# Altium footprint library JLC_25.PcbLib: 87 footprints (part 1 of 6)
Each footprint in its own frame and in the unit in brackets; x right, y up, seen from the top. Pads: shape width x height; smd on the part's side, far side on the other; paste and mask are expansions set on the pad; w line width, h text height; cw(c..) or ccw(c..) is an arc to the next point about the centre after c.
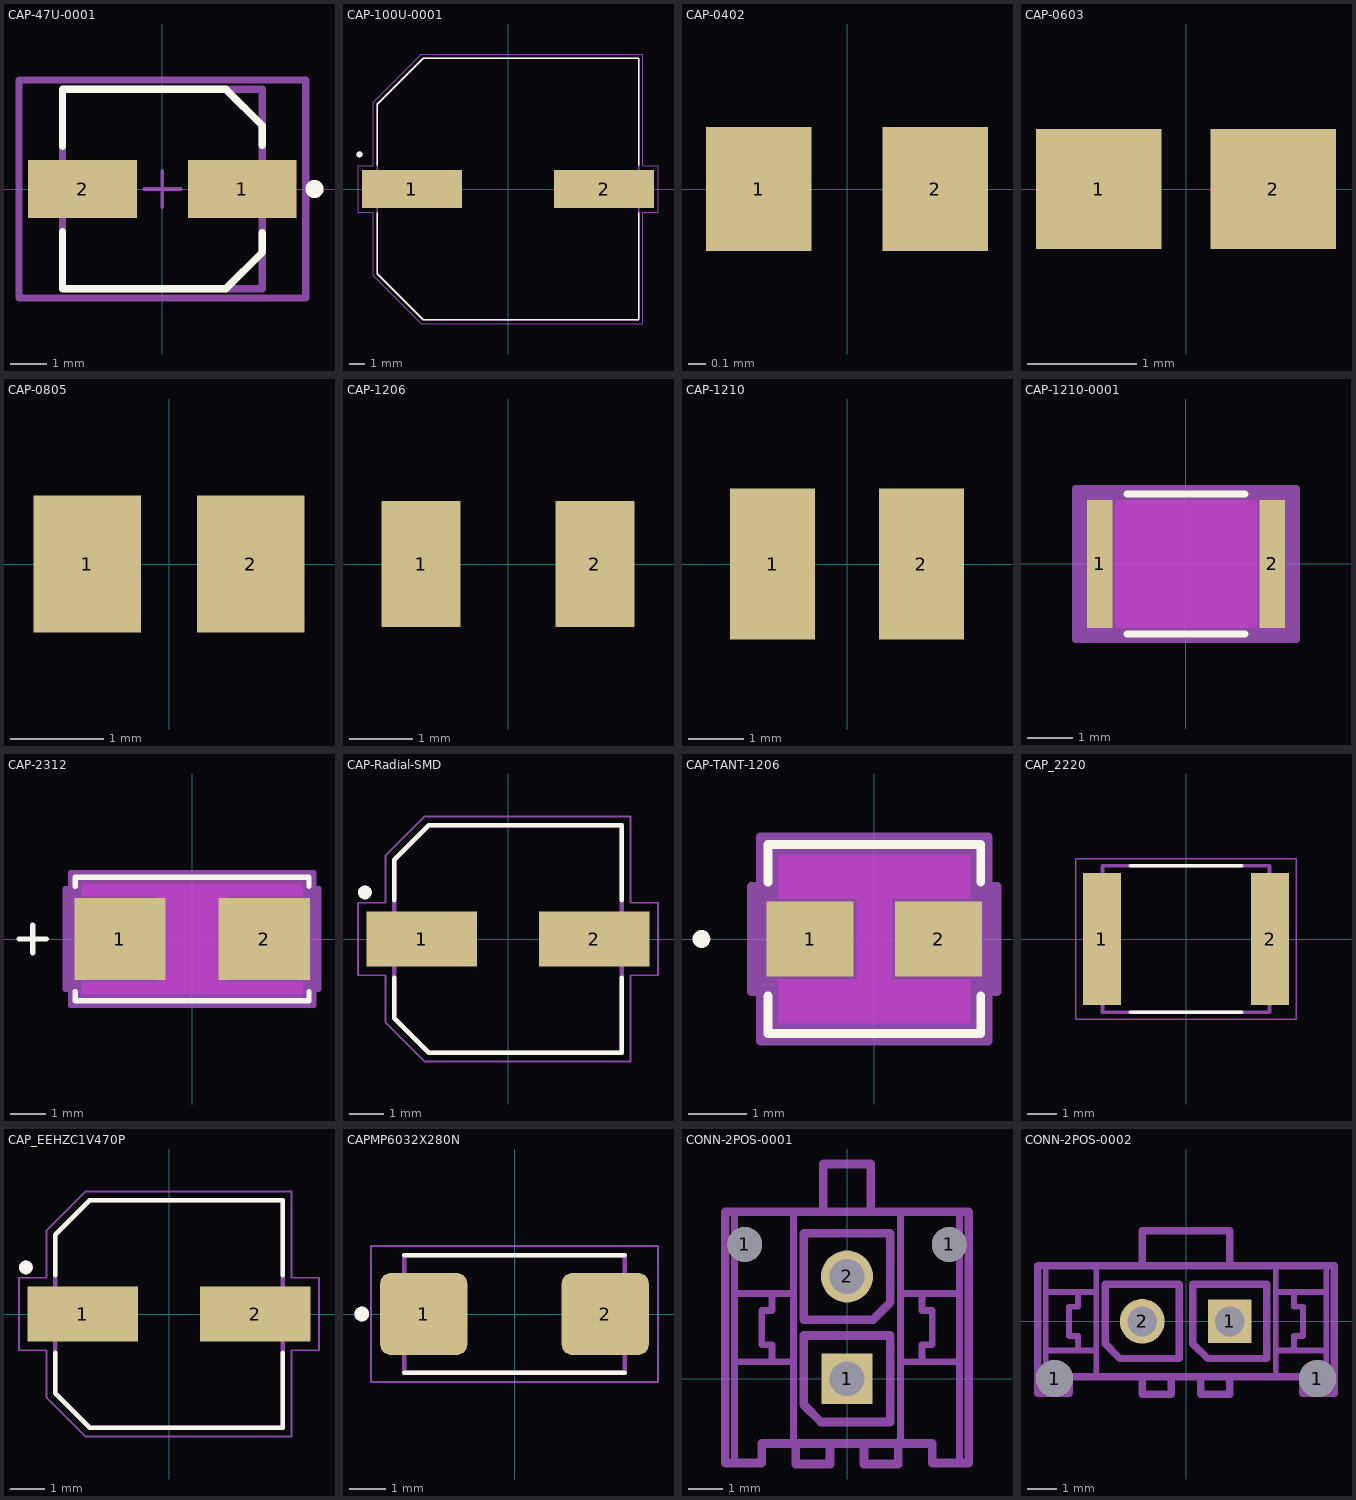
[diagram p0: the footprints below, top view; thin cyan lines are the x and y axes]

## CAP-47U-0001 [mm]
pads (2):
  rect 3x1.6 smd paste+0 mask+0: 1(2.2,0) 2(-2.2,0)
Top Overlay:
  circle w0.25: c4.191,0 r0.125
  lines w0.2: -2.75,-1.175 -2.75,-2.75 1.75,-2.75 2.75,-1.75 2.75,-1.2 ; -2.75,1.175 -2.75,2.75 1.75,2.75 2.75,1.75 2.75,1.2
Top 3D Body:
  lines w0.2: -2.75,-2.75 2.75,-2.75 2.75,2.75 -2.75,2.75 -2.75,-2.75
Top Courtyard:
  lines w0.2: -3.95,-3 3.95,-3 3.95,3 -3.95,3 -3.95,-3
Top Assembly:
  lines w0.2: -3.95,-3 3.95,-3 3.95,3 -3.95,3 -3.95,-3
Top Component Center:
  lines w0.1: -0.5,0 0.5,0 ; 0,-0.5 0,0.5
3D body "Cap_Panasonic_20SVPG33M_eec.STEP": height 0.25, standoff 0, extent -3.95,-3 3.95,3

## CAP-100U-0001 [mm]
height 16.5
pads (2):
  rect 6.5x2.5 smd: 1(-6.25,0) 2(6.25,0)
Top Overlay:
  circle w0.2: c-9.65,2.25 r0.1
  lines w0.127: -8.5,-1.57 -8.5,-5.5 -5.5,-8.5 8.5,-8.5 8.5,-1.57 ; -8.5,1.57 -8.5,5.5 -5.5,8.5 8.5,8.5 8.5,1.57
Mechanical 13:
  circle w0.2: c-9.65,2.25 r0.1
  lines w0.127: -8.5,-5.5 -8.5,5.5 -5.5,8.5 8.5,8.5 8.5,-8.5 -5.5,-8.5 -8.5,-5.5
Mechanical 15:
  lines w0.05: -9.75,-1.5 -8.75,-1.5 -8.75,-5.625 -5.625,-8.75 8.75,-8.75 8.75,-1.5 9.75,-1.5 9.75,1.5 8.75,1.5 8.75,8.75 -5.625,8.75 -8.75,5.625 -8.75,1.5 -9.75,1.5 -9.75,-1.5
3D body "step_temp.STEP": height 16.5, standoff 0, extent -9.2,-8.5 9.2,8.5

## CAP-0402 [mm]
pads (2):
  rect 0.6x0.7 smd: 1(-0.5,0) 2(0.5,0)
3D body "GRM155R71H162JA01J.STEP": height 0.5, standoff 0, extent -0.5,-0.225 0.5,0.225

## CAP-0603 [mm]
pads (2):
  rect 1.15x1.1 smd: 1(-0.8,0) 2(0.8,0)
3D body "LD033A221JAB2A.STEP": height 0.8, standoff -0.01, extent -0.8,-0.45 0.8,0.45

## CAP-0805 [mm]
pads (2):
  rect 1.16x1.47 smd: 1(-0.88,0) 2(0.88,0)
3D body "0805YC103J4T2A.STEP": height 0.94, standoff 0, extent -1.005,-0.625 1.005,0.625

## CAP-1206 [mm]
pads (2):
  rect 1.25x2 smd: 1(-1.375,0) 2(1.375,0)
3D body "GRM31A5C2E272JWA1D.STEP": height 1.5, standoff 0, extent -1.6,-0.8 1.6,0.8

## CAP-1210 [mm]
pads (2):
  rect 1.53x2.72 smd: 1(-1.341,0) 2(1.341,0)
3D body "GRM32EC72A106KE05L.STEP": height 2.7, standoff 0, extent -1.6,-1.25 1.6,1.25

## CAP-1210-0001 [mil]
pads (2):
  rect 22x110 smd paste+0 mask+0: 1(-74,0) 2(74,0)
Top Layer keep-out:
  region: -61,-53 -61,53 61,53 61,-53
Top Overlay:
  lines w6: -50.89,-60 50.89,-60 ; -50.89,60 50.89,60
Keep-Out Layer:
  region: -61,-55 -61,55 61,55 61,-55
Mechanical 13:
  lines w1: -71,-55 -71,55 ; -71,-55 71,-55 ; -71,-55 -63,-55 -63,55 -71,55 ; -71,-55 -71,55 ; -71,55 71,55 ; 71,-55 71,55 ; 71,-55 71,55 ; 71,-55 63,-55 63,55 71,55
Mechanical 15:
  region: 95,-65 -95,-65 -95,65 95,65
  lines w6: -95,-65 95,-65 95,65 -95,65 -95,-65
3D body "CAP_C225-1210_TDK.step": height 110, standoff 0, extent -70.98,-55 70.98,55

## CAP-2312 [mm]
pads (2):
  rect 2.56x2.3 smd paste+0 mask+0: 1(-2.022,0) 2(2.022,0)
Top Layer keep-out:
  region: -3.099,-1.549 -3.099,-1.201 3.099,-1.201 3.099,-1.549
  region: -3.099,1.201 -3.099,1.549 3.099,1.549 3.099,1.201
  region: -0.991,-1.201 -0.991,1.201 0.991,1.201 0.991,-1.201
Top Overlay:
  lines w0.152: -4.851,0 -4.089,0 ; -4.47,-0.381 -4.47,0.381 ; -3.277,-1.483 -3.277,-1.727 3.277,-1.727 3.277,-1.483 ; -3.277,1.483 -3.277,1.727 3.277,1.727 3.277,1.483
Keep-Out Layer:
  region: -0.991,-1.201 -0.991,1.201 0.991,1.201 0.991,-1.201
Mechanical 13:
  lines w0.025: -4.851,0 -4.089,0 ; -4.47,-0.381 -4.47,0.381 ; -3.15,-1.6 -3.15,1.6 3.15,1.6 3.15,-1.6 -3.15,-1.6
Mechanical 15:
  region: -3.404,-1.404 -3.556,-1.404 -3.556,1.404 -3.404,1.404 -3.404,1.854 3.404,1.854 3.404,1.404 3.556,1.404 3.556,-1.404 3.404,-1.404 3.404,-1.854 -3.404,-1.854
  lines w0.152: -3.556,-1.404 -3.404,-1.404 -3.404,-1.854 3.404,-1.854 3.404,-1.404 3.556,-1.404 3.556,1.404 3.404,1.404 3.404,1.854 -3.404,1.854 -3.404,1.404 -3.556,1.404 -3.556,-1.404
3D body "CAPMP63X32_28N_KEM.step": height 2.85, standoff 0, extent -3.15,-1.6 3.15,1.6

## CAP-Radial-SMD [mm]
height 5.8
pads (2):
  rect 3.2x1.6 smd: 1(-2.5,0) 2(2.5,0)
Top Overlay:
  circle w0.2: c-4.15,1.35 r0.1
  lines w0.127: -3.3,-1.12 -3.3,-2.3 -2.3,-3.3 3.3,-3.3 3.3,-1.12 ; -3.3,1.12 -3.3,2.3 -2.3,3.3 3.3,3.3 3.3,1.12
Mechanical 13:
  circle w0.2: c-4.15,1.35 r0.1
  lines w0.127: -3.3,-2.3 -3.3,2.3 -2.3,3.3 3.3,3.3 3.3,-3.3 -2.3,-3.3 -3.3,-2.3
Mechanical 15:
  lines w0.05: -4.35,-1.05 -3.55,-1.05 -3.55,-2.425 -2.425,-3.55 3.55,-3.55 3.55,-1.05 4.35,-1.05 4.35,1.05 3.55,1.05 3.55,3.55 -2.425,3.55 -3.55,2.425 -3.55,1.05 -4.35,1.05 -4.35,-1.05
3D body "step_temp.STEP": height 5.8, standoff 0, extent -3.65,-3.3 3.65,3.3

## CAP-TANT-1206 [mil]
pads (2):
  rect 58.96x51 smd paste+0 mask+0: 1(-43.52,0) 2(43.52,0)
Top Layer keep-out:
  region: -12.04,-27.5 -12.04,27.5 12.04,27.5 12.04,-27.5
  region: -65,27.5 -65,57 65,57 65,27.5
  region: -65,-57 -65,-27.5 65,-27.5 65,-57
Top Overlay:
  circle w6: c-117,0 r3
  lines w6: -72,-38.6 -72,-64 72,-64 72,-38.6 ; -72,38.6 -72,64 72,64 72,38.6
Keep-Out Layer:
  region: -12.04,-27.5 -12.04,27.5 12.04,27.5 12.04,-27.5
Mechanical 13:
  circle w0: c-57,0 r3
  lines w1: -67,-59 67,-59 67,59 -67,59 -67,-59
Mechanical 15:
  region: -77,-35.5 -83,-35.5 -83,35.5 -77,35.5 -77,69 77,69 77,35.5 83,35.5 83,-35.5 77,-35.5 77,-69 -77,-69
  lines w6: -83,-35.5 -83,35.5 -77,35.5 -77,69 77,69 77,35.5 83,35.5 83,-35.5 77,-35.5 77,-69 -77,-69 -77,-35.5 -83,-35.5
3D body "CAP_293D_A_VIS.step": height 72.99, standoff 0, extent -67.01,-59.02 67.01,59.02

## CAP_2220 [mm]
height 3.1
pads (2):
  rect 1.3x4.5 smd: 1(-2.875,0) 2(2.875,0)
Top Overlay:
  lines w0.127: -1.905,-2.5 1.905,-2.5 ; -1.905,2.5 1.905,2.5
Mechanical 13:
  lines w0.127: -2.85,-2.5 -2.85,2.5 2.85,2.5 2.85,-2.5 -2.85,-2.5
Mechanical 15:
  lines w0.05: -3.775,-2.75 -3.775,2.75 3.775,2.75 3.775,-2.75 -3.775,-2.75
3D body "C5750X5R1A686M230KA.step": height 2.5, standoff 0, extent -2.723,-2.5 2.977,2.5

## CAP_EEHZC1V470P [mm]
height 5.8
pads (2):
  rect 3.2x1.6 smd: 1(-2.5,0) 2(2.5,0)
Top Overlay:
  circle w0.2: c-4.15,1.35 r0.1
  lines w0.127: -3.3,-1.12 -3.3,-2.3 -2.3,-3.3 3.3,-3.3 3.3,-1.12 ; -3.3,1.12 -3.3,2.3 -2.3,3.3 3.3,3.3 3.3,1.12
Mechanical 13:
  circle w0.2: c-4.15,1.35 r0.1
  lines w0.127: -3.3,-2.3 -2.3,-3.3 3.3,-3.3 3.3,3.3 -2.3,3.3 -3.3,2.3 -3.3,-2.3
Mechanical 15:
  lines w0.05: -4.35,-1.05 -4.35,1.05 -3.55,1.05 -3.55,2.425 -2.425,3.55 3.55,3.55 3.55,1.05 4.35,1.05 4.35,-1.05 3.55,-1.05 3.55,-3.55 -2.425,-3.55 -3.55,-2.425 -3.55,-1.05 -4.35,-1.05
3D body "step_temp.STEP": height 5.8, standoff 0, extent -3.65,-3.3 3.65,3.3

## CAPMP6032X280N [mm]
pads (2):
  rrect25% 2.37x2.23 smd: 1(-2.47,0) 2(2.47,0)
Top Overlay:
  circle w0.2: c-4.16,0 r0.1
  lines w0.127: -3,-1.6 3,-1.6 ; -3,1.6 3,1.6
Mechanical 13:
  circle w0.2: c-4.16,0 r0.1
  lines w0.127: -3,-1.6 -3,1.6 3,1.6 3,-1.6 -3,-1.6
Mechanical 15:
  lines w0.05: -3.905,-1.85 -3.905,1.85 3.905,1.85 3.905,-1.85 -3.905,-1.85
3D body "step_temp.STEP": height 2.8, standoff 0, extent -3,-1.6 3,1.6

## CONN-2POS-0001 [mm]
pads (4):
  round 1.02 hole 1.02 unplated: 1(-3,3.94) 1(3,3.94)
  rect 1.482x1.482 / inner rect 1.524x1.524 / far side rect 1.482x1.482 hole 1.02: 1(0,0)
  round 1.53 / inner round 1.524 / far side round 1.53 hole 1.02: 2(0,3)
Mechanical 22:
  lines w0.2: -3.3,-2.47 -3.3,0.5 ; -3.3,4.9 -3.3,2.5 ; -1.57,-1.9 -1.57,0.5 ; -1.57,4.9 -1.57,2.5 ; 1.57,-1.9 1.57,0.5 ; 1.57,4.9 1.57,2.5 ; 3.3,-2.47 3.3,0.5 ; 3.3,4.9 3.3,2.5 ; -3.3,0.5 -3.3,2.5 ; -3.3,0.5 -2.2,0.5 ; -3.3,2.5 -2.2,2.5 ; -2.2,0.5 -1.57,0.5 ; -2.2,0.5 -2.2,1 -2.5,1 -2.5,2 -2.2,2 -2.2,2.5 ; -2.2,2.5 -1.57,2.5 ; -1.57,0.5 -1.57,2.5 ; 1.57,0.5 1.57,2.5 ; 1.57,0.5 2.2,0.5 ; 1.57,2.5 2.2,2.5 ; 2.2,0.5 3.3,0.5 ; 2.2,0.5 2.2,1 2.5,1 2.5,2 2.2,2 2.2,2.5 ; 2.2,2.5 3.3,2.5 ; 3.3,0.5 3.3,2.5
  lines w0.254: -1.5,-1.9 -0.5,-1.9 ; -1.5,-1.9 -1.57,-1.9 -2.5,-1.9 -2.5,-2.47 -3.3,-2.47 -3.575,-2.47 -3.575,4.9 -3.3,4.9 -1.57,4.9 -0.7,4.9 ; -1.5,-1.9 -1.5,-2.5 -0.5,-2.5 -0.5,-1.9 ; -0.7,4.9 0.7,4.9 ; -0.7,4.9 -0.7,6.3 0.7,6.3 0.7,4.9 ; -0.5,-1.9 0.5,-1.9 ; 0.5,-1.9 1.5,-1.9 ; 0.5,-1.9 0.5,-2.5 1.5,-2.5 1.5,-1.9 ; 0.7,4.9 1.57,4.9 3.3,4.9 3.575,4.9 3.575,-2.47 3.3,-2.47 2.5,-2.47 2.5,-1.9 1.57,-1.9 1.5,-1.9 ; -1.27,-0.762 -1.27,1.27 1.27,1.27 1.27,-1.27 -0.762,-1.27 -1.27,-0.762
Bottom 3D Body:
  lines w0.254: -1.27,1.73 -1.27,4.27 1.27,4.27 1.27,2.238 0.762,1.73 -1.27,1.73
3D body "430450212.stp": height 9.91, standoff -3.18, extent -3.575,-2.42 3.575,6.35

## CONN-2POS-0002 [mm]
pads (4):
  round 1.27 hole 1.27 unplated: 1(-4.5,-1.96) 1(4.5,-1.96)
  rect 1.482x1.482 / inner rect 1.524x1.524 / far side rect 1.482x1.482 hole 1.02: 1(1.5,0)
  round 1.53 / inner round 1.524 / far side round 1.53 hole 1.02: 2(-1.5,0)
Mechanical 22:
  lines w0.2: -4.8,-2.47 -4.8,-1 ; -4.8,1.9 -4.8,1 ; -3.07,-1.9 -3.07,-1 ; -3.07,1.9 -3.07,1 ; 3.07,-1.9 3.07,-1 ; 3.07,1.9 3.07,1 ; 4.8,-2.47 4.8,-1 ; 4.8,1.9 4.8,1 ; -4.8,-1 -4.8,1 ; -4.8,-1 -3.7,-1 ; -4.8,1 -3.7,1 ; -3.7,-1 -3.07,-1 ; -3.7,-1 -3.7,-0.5 -4,-0.5 -4,0.5 -3.7,0.5 -3.7,1 ; -3.7,1 -3.07,1 ; -3.07,-1 -3.07,1 ; 3.07,-1 3.07,1 ; 3.07,-1 3.7,-1 ; 3.07,1 3.7,1 ; 3.7,-1 4.8,-1 ; 3.7,-1 3.7,-0.5 4,-0.5 4,0.5 3.7,0.5 3.7,1 ; 3.7,1 4.8,1 ; 4.8,-1 4.8,1
  lines w0.254: -1.5,-1.9 -0.5,-1.9 ; -1.5,-1.9 -3.07,-1.9 -4,-1.9 -4,-2.47 -4.8,-2.47 -5.075,-2.47 -5.075,1.9 -4.8,1.9 -3.07,1.9 -1.5,1.9 ; -1.5,-1.9 -1.5,-2.5 -0.5,-2.5 -0.5,-1.9 ; -1.5,1.9 1.5,1.9 ; -1.5,1.9 -1.5,3.1 1.5,3.1 1.5,1.9 ; -0.5,-1.9 0.5,-1.9 ; 0.5,-1.9 1.5,-1.9 ; 0.5,-1.9 0.5,-2.5 1.5,-2.5 1.5,-1.9 ; 1.5,-1.9 3.07,-1.9 4,-1.9 4,-2.47 4.8,-2.47 5.075,-2.47 5.075,1.9 4.8,1.9 3.07,1.9 1.5,1.9 ; -2.77,-0.762 -2.77,1.27 -0.23,1.27 -0.23,-1.27 -2.262,-1.27 -2.77,-0.762 ; 0.23,-0.762 0.23,1.27 2.77,1.27 2.77,-1.27 0.738,-1.27 0.23,-0.762
3D body "436500215.stp": height 10.03, standoff -3.05, extent -4.825,-2.47 4.825,3.135